# EAGLE library part PIC24HJ32GP202 (library SparkFun-Retired)
PIC24HJ32GP202 Retired: IC-08923
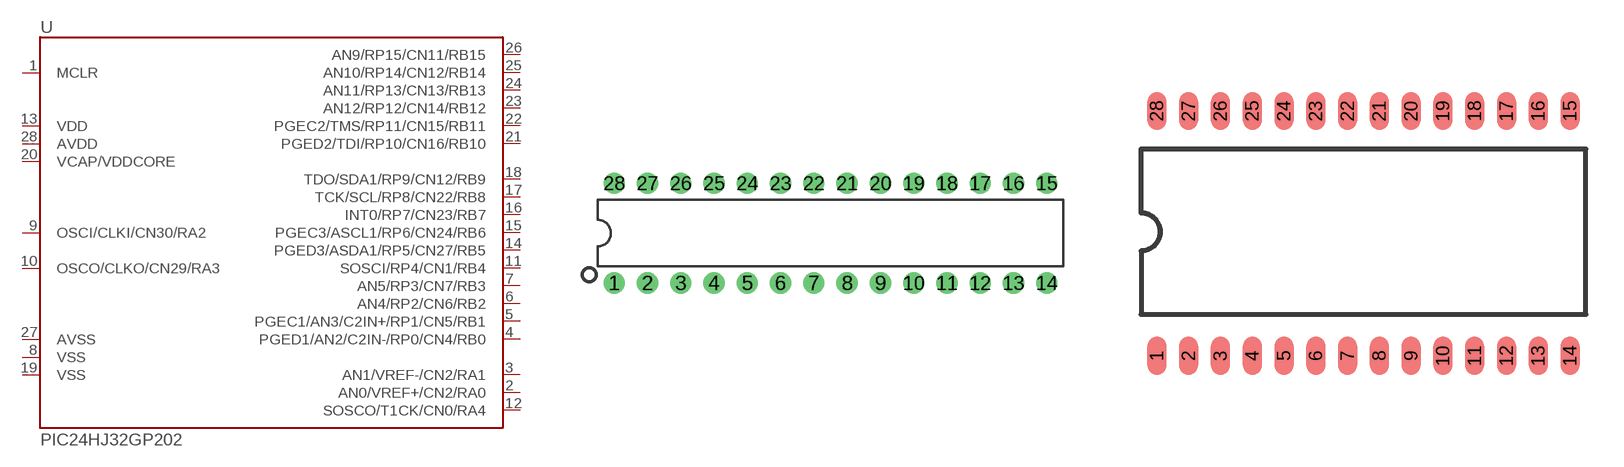
[diagram p109: symbol with the pads of DIP28_MCU; footprints DIP28_MCU, SO-28W_MCU]

Designator prefix -

## PIC24HJ32GP202DIP  [DIP28_MCU]
1  MCLR  in
2  AN0/VREF+/CN2/RA0
3  AN1/VREF-/CN2/RA1
4  PGED1/AN2/C2IN-/RP0/CN4/RB0
5  PGEC1/AN3/C2IN+/RP1/CN5/RB1
6  AN4/RP2/CN6/RB2
7  AN5/RP3/CN7/RB3
8  VSS  pwr
9  OSCI/CLKI/CN30/RA2  in
10  OSCO/CLKO/CN29/RA3  out
11  SOSCI/RP4/CN1/RB4
12  SOSCO/T1CK/CN0/RA4
13  VDD  pwr
14  PGED3/ASDA1/RP5/CN27/RB5
15  PGEC3/ASCL1/RP6/CN24/RB6
16  INT0/RP7/CN23/RB7
17  TCK/SCL/RP8/CN22/RB8
18  TDO/SDA1/RP9/CN12/RB9
19  VSS  pwr
20  VCAP/VDDCORE  pwr
21  PGED2/TDI/RP10/CN16/RB10
22  PGEC2/TMS/RP11/CN15/RB11
23  AN12/RP12/CN14/RB12
24  AN11/RP13/CN13/RB13
25  AN10/RP14/CN12/RB14
26  AN9/RP15/CN11/RB15
27  AVSS  pwr
28  AVDD  pwr

## PIC24HJ32GP202SMD  [SO-28W_MCU]
Pads as for DIP28_MCU

## Footprint DIP28_MCU (pad centres in mm)
Standard 28-pin DIP package. IC needs to have legs bent before insertion.
drill 0.813 pad 1.626: 1 -16.51,-3.81; 2 -13.97,-3.81; 3 -11.43,-3.81; 4 -8.89,-3.81; 5 -6.35,-3.81; 6 -3.81,-3.81; 7 -1.27,-3.81; 8 1.27,-3.81; 9 3.81,-3.81; 10 6.35,-3.81; 11 8.89,-3.81; 12 11.43,-3.81; 13 13.97,-3.81; 14 16.51,-3.81; 15 16.51,3.81; 16 13.97,3.81; 17 11.43,3.81; 18 8.89,3.81; 19 6.35,3.81; 20 3.81,3.81; 21 1.27,3.81; 22 -1.27,3.81; 23 -3.81,3.81; 24 -6.35,3.81; 25 -8.89,3.81; 26 -11.43,3.81; 27 -13.97,3.81; 28 -16.51,3.81

## Footprint SO-28W_MCU (pad centres in mm)
Small Outline Wide Plastic Gull Wing 300-mil body, package type SO
smd 0.762 x 1.524: 1 -8.255,-4.953; 2 -6.985,-4.953; 3 -5.715,-4.953; 4 -4.445,-4.953; 5 -3.175,-4.953; 6 -1.905,-4.953; 7 -0.635,-4.953; 8 0.635,-4.953; 9 1.905,-4.953; 10 3.175,-4.953; 11 4.445,-4.953; 12 5.715,-4.953; 13 6.985,-4.953; 14 8.255,-4.953; 15 8.255,4.826; 16 6.985,4.826; 17 5.715,4.826; 18 4.445,4.826; 19 3.175,4.826; 20 1.905,4.826; 21 0.635,4.826; 22 -0.635,4.826; 23 -1.905,4.826; 24 -3.175,4.826; 25 -4.445,4.826; 26 -5.715,4.826; 27 -6.985,4.826; 28 -8.255,4.826